# EAGLE library part SRV05-4 (library aq-diode)
TVS Diode Array RailClamp® Low-Capacitance
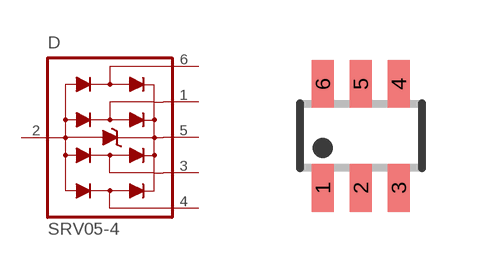
[diagram p10: symbol with the pads of SOT23-6L; footprint SOT23-6L]

Designator prefix D

## SRV05-4  [SOT23-6L]
1  1  pas
2  2  pas
3  3  pas
4  4  pas
5  5  pas
6  6  pas

## Footprint SOT23-6L (pad centres in mm)
Small Outline Transistor
smd 0.55 x 1.2: 1 -0.95,-1.3; 2 0,-1.3; 3 0.95,-1.3; 4 0.95,1.3; 5 0,1.3; 6 -0.95,1.3